# Altium footprint library QFN_Sq_65P_Side_M.PcbLib: 52 footprints (part 3 of 4)
Each footprint in its own frame and in the unit in brackets; x right, y up, seen from the top. Pads: shape width x height; smd on the part's side, far side on the other; paste and mask are expansions set on the pad; w line width, h text height; cw(c..) or ccw(c..) is an arc to the next point about the centre after c.
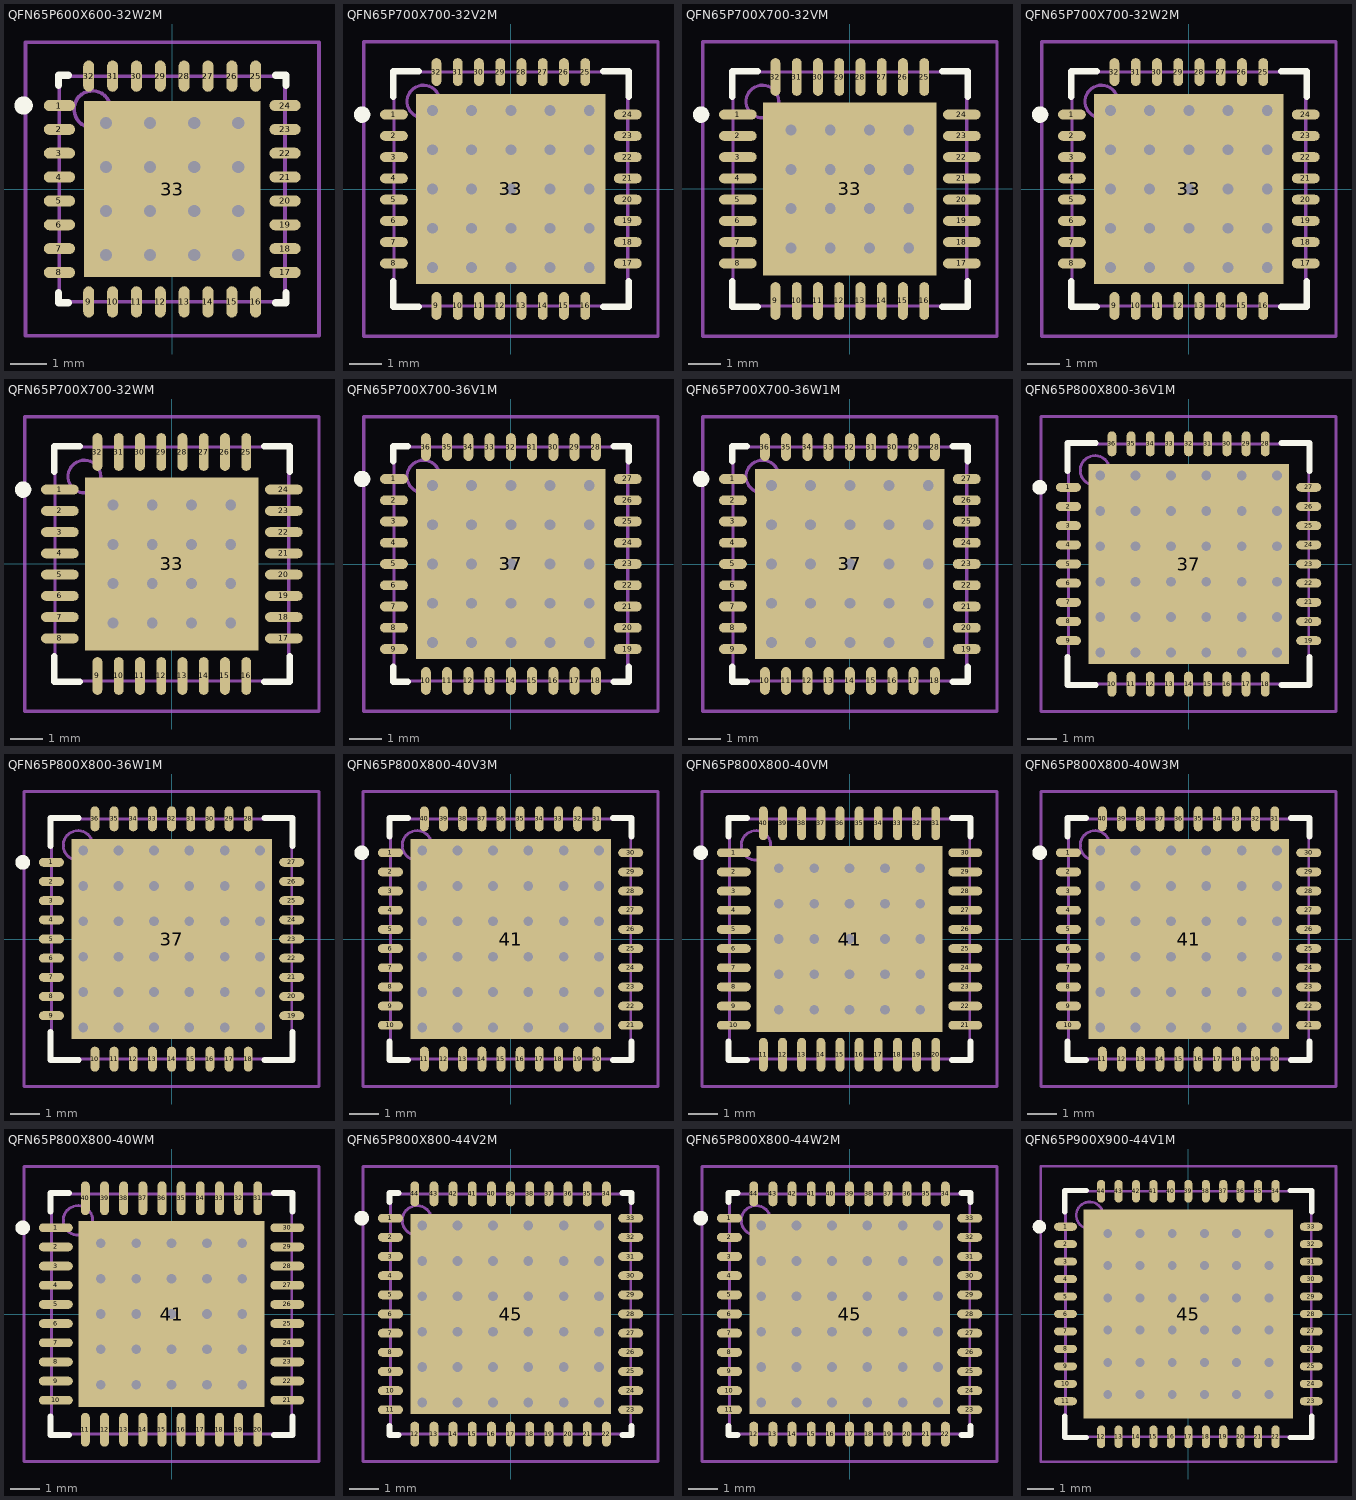
[diagram p2: the footprints below, top view; thin cyan lines are the x and y axes]

## QFN65P600X600-32W2M [mm] "QFN, 32-Leads, Body 6x6 mm, Pitch 0.65mm, IPC Low Density"
height 0.8
pads (33):
  oval 0.85x0.3 smd: 1(-3.075,2.275) 2(-3.075,1.625) 3(-3.075,0.975) 4(-3.075,0.325) 5(-3.075,-0.325) 6(-3.075,-0.975) 7(-3.075,-1.625) 8(-3.075,-2.275) 17(3.075,-2.275) 18(3.075,-1.625) 19(3.075,-0.975) 20(3.075,-0.325) 21(3.075,0.325) 22(3.075,0.975) 23(3.075,1.625) 24(3.075,2.275)
  oval 0.3x0.85 smd: 9(-2.275,-3.075) 10(-1.625,-3.075) 11(-0.975,-3.075) 12(-0.325,-3.075) 13(0.325,-3.075) 14(0.975,-3.075) 15(1.625,-3.075) 16(2.275,-3.075) 25(2.275,3.075) 26(1.625,3.075) 27(0.975,3.075) 28(0.325,3.075) 29(-0.325,3.075) 30(-0.975,3.075) 31(-1.625,3.075) 32(-2.275,3.075)
  rect 4.8x4.8 smd: 33(0,0)
via 1.8,-1.8 diameter 0.66 hole 0.33
via 0.6,-1.8 diameter 0.66 hole 0.33
via -0.6,-1.8 diameter 0.66 hole 0.33
via -1.8,-1.8 diameter 0.66 hole 0.33
via 1.8,-0.6 diameter 0.66 hole 0.33
via 0.6,-0.6 diameter 0.66 hole 0.33
via -0.6,-0.6 diameter 0.66 hole 0.33
via -1.8,-0.6 diameter 0.66 hole 0.33
via 1.8,0.6 diameter 0.66 hole 0.33
via 0.6,0.6 diameter 0.66 hole 0.33
via -0.6,0.6 diameter 0.66 hole 0.33
via -1.8,0.6 diameter 0.66 hole 0.33
via 1.8,1.8 diameter 0.66 hole 0.33
via 0.6,1.8 diameter 0.66 hole 0.33
via -0.6,1.8 diameter 0.66 hole 0.33
via -1.8,1.8 diameter 0.66 hole 0.33
Top Overlay:
  circle w0.25: c-4.05,2.275 r0.125
  lines w0.2: -3.1,-2.825 -3.1,-3.1 -2.825,-3.1 ; -3.1,2.825 -3.1,3.1 -2.825,3.1 ; 2.825,-3.1 3.1,-3.1 3.1,-2.825 ; 2.825,3.1 3.1,3.1 3.1,2.825
Mechanical 13:
  circle w0.1: c-2.175,2.175 r0.5
  lines w0.1: -3.075,-3.075 3.075,-3.075 3.075,3.075 -3.075,3.075 -3.075,-3.075
Mechanical 15:
  lines w0.1: -0.5,0 0.5,0 ; 0,-0.5 0,0.5 ; -4,-4 4,-4 4,4 -4,4 -4,-4
3D body: height 0.8, standoff 0, extent -3.075,-3.075 3.075,3.075

## QFN65P700X700-32V2M [mm] "QFN, 32-Leads, Body 7x7 mm, Pitch 0.65mm, IPC Low Density"
height 1
pads (33):
  oval 0.85x0.3 smd: 1(-3.575,2.275) 2(-3.575,1.625) 3(-3.575,0.975) 4(-3.575,0.325) 5(-3.575,-0.325) 6(-3.575,-0.975) 7(-3.575,-1.625) 8(-3.575,-2.275) 17(3.575,-2.275) 18(3.575,-1.625) 19(3.575,-0.975) 20(3.575,-0.325) 21(3.575,0.325) 22(3.575,0.975) 23(3.575,1.625) 24(3.575,2.275)
  oval 0.3x0.85 smd: 9(-2.275,-3.575) 10(-1.625,-3.575) 11(-0.975,-3.575) 12(-0.325,-3.575) 13(0.325,-3.575) 14(0.975,-3.575) 15(1.625,-3.575) 16(2.275,-3.575) 25(2.275,3.575) 26(1.625,3.575) 27(0.975,3.575) 28(0.325,3.575) 29(-0.325,3.575) 30(-0.975,3.575) 31(-1.625,3.575) 32(-2.275,3.575)
  rect 5.8x5.8 smd: 33(0,0)
via 2.4,-2.4 diameter 0.66 hole 0.33
via 1.2,-2.4 diameter 0.66 hole 0.33
via 0,-2.4 diameter 0.66 hole 0.33
via -1.2,-2.4 diameter 0.66 hole 0.33
via -2.4,-2.4 diameter 0.66 hole 0.33
via 2.4,-1.2 diameter 0.66 hole 0.33
via 1.2,-1.2 diameter 0.66 hole 0.33
via 0,-1.2 diameter 0.66 hole 0.33
via -1.2,-1.2 diameter 0.66 hole 0.33
via -2.4,-1.2 diameter 0.66 hole 0.33
via 2.4,0 diameter 0.66 hole 0.33
via 1.2,0 diameter 0.66 hole 0.33
via 0,0 diameter 0.66 hole 0.33
via -1.2,0 diameter 0.66 hole 0.33
via -2.4,0 diameter 0.66 hole 0.33
via 2.4,1.2 diameter 0.66 hole 0.33
via 1.2,1.2 diameter 0.66 hole 0.33
via 0,1.2 diameter 0.66 hole 0.33
via -1.2,1.2 diameter 0.66 hole 0.33
via -2.4,1.2 diameter 0.66 hole 0.33
via 2.4,2.4 diameter 0.66 hole 0.33
via 1.2,2.4 diameter 0.66 hole 0.33
via 0,2.4 diameter 0.66 hole 0.33
via -1.2,2.4 diameter 0.66 hole 0.33
via -2.4,2.4 diameter 0.66 hole 0.33
Top Overlay:
  circle w0.25: c-4.55,2.275 r0.125
  lines w0.2: -3.6,-2.825 -3.6,-3.6 -2.825,-3.6 ; -3.6,2.825 -3.6,3.6 -2.825,3.6 ; 2.825,-3.6 3.6,-3.6 3.6,-2.825 ; 2.825,3.6 3.6,3.6 3.6,2.825
Mechanical 13:
  circle w0.1: c-2.675,2.675 r0.5
  lines w0.1: -3.575,-3.575 3.575,-3.575 3.575,3.575 -3.575,3.575 -3.575,-3.575
Mechanical 15:
  lines w0.1: -0.5,0 0.5,0 ; 0,-0.5 0,0.5 ; -4.5,-4.5 4.5,-4.5 4.5,4.5 -4.5,4.5 -4.5,-4.5
3D body: height 1, standoff 0, extent -3.575,-3.575 3.575,3.575

## QFN65P700X700-32VM [mm] "QFN, 32-Leads, Body 7x7 mm, Pitch 0.65mm, IPC Low Density"
height 1
pads (33):
  oval 1.15x0.3 smd: 1(-3.425,2.275) 2(-3.425,1.625) 3(-3.425,0.975) 4(-3.425,0.325) 5(-3.425,-0.325) 6(-3.425,-0.975) 7(-3.425,-1.625) 8(-3.425,-2.275) 17(3.425,-2.275) 18(3.425,-1.625) 19(3.425,-0.975) 20(3.425,-0.325) 21(3.425,0.325) 22(3.425,0.975) 23(3.425,1.625) 24(3.425,2.275)
  oval 0.3x1.15 smd: 9(-2.275,-3.425) 10(-1.625,-3.425) 11(-0.975,-3.425) 12(-0.325,-3.425) 13(0.325,-3.425) 14(0.975,-3.425) 15(1.625,-3.425) 16(2.275,-3.425) 25(2.275,3.425) 26(1.625,3.425) 27(0.975,3.425) 28(0.325,3.425) 29(-0.325,3.425) 30(-0.975,3.425) 31(-1.625,3.425) 32(-2.275,3.425)
  rect 5.3x5.3 smd: 33(0,0)
via 1.8,-1.8 diameter 0.66 hole 0.33
via 0.6,-1.8 diameter 0.66 hole 0.33
via -0.6,-1.8 diameter 0.66 hole 0.33
via -1.8,-1.8 diameter 0.66 hole 0.33
via 1.8,-0.6 diameter 0.66 hole 0.33
via 0.6,-0.6 diameter 0.66 hole 0.33
via -0.6,-0.6 diameter 0.66 hole 0.33
via -1.8,-0.6 diameter 0.66 hole 0.33
via 1.8,0.6 diameter 0.66 hole 0.33
via 0.6,0.6 diameter 0.66 hole 0.33
via -0.6,0.6 diameter 0.66 hole 0.33
via -1.8,0.6 diameter 0.66 hole 0.33
via 1.8,1.8 diameter 0.66 hole 0.33
via 0.6,1.8 diameter 0.66 hole 0.33
via -0.6,1.8 diameter 0.66 hole 0.33
via -1.8,1.8 diameter 0.66 hole 0.33
Top Overlay:
  circle w0.25: c-4.55,2.275 r0.125
  lines w0.2: -3.6,-2.825 -3.6,-3.6 -2.825,-3.6 ; -3.6,2.825 -3.6,3.6 -2.825,3.6 ; 2.825,-3.6 3.6,-3.6 3.6,-2.825 ; 2.825,3.6 3.6,3.6 3.6,2.825
Mechanical 13:
  circle w0.1: c-2.675,2.675 r0.5
  lines w0.1: -3.575,-3.575 3.575,-3.575 3.575,3.575 -3.575,3.575 -3.575,-3.575
Mechanical 15:
  lines w0.1: -0.5,0 0.5,0 ; 0,-0.5 0,0.5 ; -4.5,-4.5 4.5,-4.5 4.5,4.5 -4.5,4.5 -4.5,-4.5
3D body: height 1, standoff 0, extent -3.575,-3.575 3.575,3.575

## QFN65P700X700-32W2M [mm] "QFN, 32-Leads, Body 7x7 mm, Pitch 0.65mm, IPC Low Density"
height 0.8
pads (33):
  oval 0.85x0.3 smd: 1(-3.575,2.275) 2(-3.575,1.625) 3(-3.575,0.975) 4(-3.575,0.325) 5(-3.575,-0.325) 6(-3.575,-0.975) 7(-3.575,-1.625) 8(-3.575,-2.275) 17(3.575,-2.275) 18(3.575,-1.625) 19(3.575,-0.975) 20(3.575,-0.325) 21(3.575,0.325) 22(3.575,0.975) 23(3.575,1.625) 24(3.575,2.275)
  oval 0.3x0.85 smd: 9(-2.275,-3.575) 10(-1.625,-3.575) 11(-0.975,-3.575) 12(-0.325,-3.575) 13(0.325,-3.575) 14(0.975,-3.575) 15(1.625,-3.575) 16(2.275,-3.575) 25(2.275,3.575) 26(1.625,3.575) 27(0.975,3.575) 28(0.325,3.575) 29(-0.325,3.575) 30(-0.975,3.575) 31(-1.625,3.575) 32(-2.275,3.575)
  rect 5.8x5.8 smd: 33(0,0)
via 2.4,-2.4 diameter 0.66 hole 0.33
via 1.2,-2.4 diameter 0.66 hole 0.33
via 0,-2.4 diameter 0.66 hole 0.33
via -1.2,-2.4 diameter 0.66 hole 0.33
via -2.4,-2.4 diameter 0.66 hole 0.33
via 2.4,-1.2 diameter 0.66 hole 0.33
via 1.2,-1.2 diameter 0.66 hole 0.33
via 0,-1.2 diameter 0.66 hole 0.33
via -1.2,-1.2 diameter 0.66 hole 0.33
via -2.4,-1.2 diameter 0.66 hole 0.33
via 2.4,0 diameter 0.66 hole 0.33
via 1.2,0 diameter 0.66 hole 0.33
via 0,0 diameter 0.66 hole 0.33
via -1.2,0 diameter 0.66 hole 0.33
via -2.4,0 diameter 0.66 hole 0.33
via 2.4,1.2 diameter 0.66 hole 0.33
via 1.2,1.2 diameter 0.66 hole 0.33
via 0,1.2 diameter 0.66 hole 0.33
via -1.2,1.2 diameter 0.66 hole 0.33
via -2.4,1.2 diameter 0.66 hole 0.33
via 2.4,2.4 diameter 0.66 hole 0.33
via 1.2,2.4 diameter 0.66 hole 0.33
via 0,2.4 diameter 0.66 hole 0.33
via -1.2,2.4 diameter 0.66 hole 0.33
via -2.4,2.4 diameter 0.66 hole 0.33
Top Overlay:
  circle w0.25: c-4.55,2.275 r0.125
  lines w0.2: -3.6,-2.825 -3.6,-3.6 -2.825,-3.6 ; -3.6,2.825 -3.6,3.6 -2.825,3.6 ; 2.825,-3.6 3.6,-3.6 3.6,-2.825 ; 2.825,3.6 3.6,3.6 3.6,2.825
Mechanical 13:
  circle w0.1: c-2.675,2.675 r0.5
  lines w0.1: -3.575,-3.575 3.575,-3.575 3.575,3.575 -3.575,3.575 -3.575,-3.575
Mechanical 15:
  lines w0.1: -0.5,0 0.5,0 ; 0,-0.5 0,0.5 ; -4.5,-4.5 4.5,-4.5 4.5,4.5 -4.5,4.5 -4.5,-4.5
3D body: height 0.8, standoff 0, extent -3.575,-3.575 3.575,3.575

## QFN65P700X700-32WM [mm] "QFN, 32-Leads, Body 7x7 mm, Pitch 0.65mm, IPC Low Density"
height 0.8
pads (33):
  oval 1.15x0.3 smd: 1(-3.425,2.275) 2(-3.425,1.625) 3(-3.425,0.975) 4(-3.425,0.325) 5(-3.425,-0.325) 6(-3.425,-0.975) 7(-3.425,-1.625) 8(-3.425,-2.275) 17(3.425,-2.275) 18(3.425,-1.625) 19(3.425,-0.975) 20(3.425,-0.325) 21(3.425,0.325) 22(3.425,0.975) 23(3.425,1.625) 24(3.425,2.275)
  oval 0.3x1.15 smd: 9(-2.275,-3.425) 10(-1.625,-3.425) 11(-0.975,-3.425) 12(-0.325,-3.425) 13(0.325,-3.425) 14(0.975,-3.425) 15(1.625,-3.425) 16(2.275,-3.425) 25(2.275,3.425) 26(1.625,3.425) 27(0.975,3.425) 28(0.325,3.425) 29(-0.325,3.425) 30(-0.975,3.425) 31(-1.625,3.425) 32(-2.275,3.425)
  rect 5.3x5.3 smd: 33(0,0)
via 1.8,-1.8 diameter 0.66 hole 0.33
via 0.6,-1.8 diameter 0.66 hole 0.33
via -0.6,-1.8 diameter 0.66 hole 0.33
via -1.8,-1.8 diameter 0.66 hole 0.33
via 1.8,-0.6 diameter 0.66 hole 0.33
via 0.6,-0.6 diameter 0.66 hole 0.33
via -0.6,-0.6 diameter 0.66 hole 0.33
via -1.8,-0.6 diameter 0.66 hole 0.33
via 1.8,0.6 diameter 0.66 hole 0.33
via 0.6,0.6 diameter 0.66 hole 0.33
via -0.6,0.6 diameter 0.66 hole 0.33
via -1.8,0.6 diameter 0.66 hole 0.33
via 1.8,1.8 diameter 0.66 hole 0.33
via 0.6,1.8 diameter 0.66 hole 0.33
via -0.6,1.8 diameter 0.66 hole 0.33
via -1.8,1.8 diameter 0.66 hole 0.33
Top Overlay:
  circle w0.25: c-4.55,2.275 r0.125
  lines w0.2: -3.6,-2.825 -3.6,-3.6 -2.825,-3.6 ; -3.6,2.825 -3.6,3.6 -2.825,3.6 ; 2.825,-3.6 3.6,-3.6 3.6,-2.825 ; 2.825,3.6 3.6,3.6 3.6,2.825
Mechanical 13:
  circle w0.1: c-2.675,2.675 r0.5
  lines w0.1: -3.575,-3.575 3.575,-3.575 3.575,3.575 -3.575,3.575 -3.575,-3.575
Mechanical 15:
  lines w0.1: -0.5,0 0.5,0 ; 0,-0.5 0,0.5 ; -4.5,-4.5 4.5,-4.5 4.5,4.5 -4.5,4.5 -4.5,-4.5
3D body: height 0.8, standoff 0, extent -3.575,-3.575 3.575,3.575

## QFN65P700X700-36V1M [mm] "QFN, 36-Leads, Body 7x7 mm, Pitch 0.65mm, IPC Low Density"
height 1
pads (37):
  oval 0.85x0.3 smd: 1(-3.575,2.6) 2(-3.575,1.95) 3(-3.575,1.3) 4(-3.575,0.65) 5(-3.575,0) 6(-3.575,-0.65) 7(-3.575,-1.3) 8(-3.575,-1.95) 9(-3.575,-2.6) 19(3.575,-2.6) 20(3.575,-1.95) 21(3.575,-1.3) 22(3.575,-0.65) 23(3.575,0) 24(3.575,0.65) 25(3.575,1.3) 26(3.575,1.95) 27(3.575,2.6)
  oval 0.3x0.85 smd: 10(-2.6,-3.575) 11(-1.95,-3.575) 12(-1.3,-3.575) 13(-0.65,-3.575) 14(0,-3.575) 15(0.65,-3.575) 16(1.3,-3.575) 17(1.95,-3.575) 18(2.6,-3.575) 28(2.6,3.575) 29(1.95,3.575) 30(1.3,3.575) 31(0.65,3.575) 32(0,3.575) 33(-0.65,3.575) 34(-1.3,3.575) 35(-1.95,3.575) 36(-2.6,3.575)
  rect 5.8x5.8 smd: 37(0,0)
via 2.4,-2.4 diameter 0.66 hole 0.33
via 1.2,-2.4 diameter 0.66 hole 0.33
via 0,-2.4 diameter 0.66 hole 0.33
via -1.2,-2.4 diameter 0.66 hole 0.33
via -2.4,-2.4 diameter 0.66 hole 0.33
via 2.4,-1.2 diameter 0.66 hole 0.33
via 1.2,-1.2 diameter 0.66 hole 0.33
via 0,-1.2 diameter 0.66 hole 0.33
via -1.2,-1.2 diameter 0.66 hole 0.33
via -2.4,-1.2 diameter 0.66 hole 0.33
via 2.4,0 diameter 0.66 hole 0.33
via 1.2,0 diameter 0.66 hole 0.33
via 0,0 diameter 0.66 hole 0.33
via -1.2,0 diameter 0.66 hole 0.33
via -2.4,0 diameter 0.66 hole 0.33
via 2.4,1.2 diameter 0.66 hole 0.33
via 1.2,1.2 diameter 0.66 hole 0.33
via 0,1.2 diameter 0.66 hole 0.33
via -1.2,1.2 diameter 0.66 hole 0.33
via -2.4,1.2 diameter 0.66 hole 0.33
via 2.4,2.4 diameter 0.66 hole 0.33
via 1.2,2.4 diameter 0.66 hole 0.33
via 0,2.4 diameter 0.66 hole 0.33
via -1.2,2.4 diameter 0.66 hole 0.33
via -2.4,2.4 diameter 0.66 hole 0.33
Top Overlay:
  circle w0.25: c-4.55,2.6 r0.125
  lines w0.2: -3.6,-3.15 -3.6,-3.6 -3.15,-3.6 ; -3.6,3.15 -3.6,3.6 -3.15,3.6 ; 3.15,-3.6 3.6,-3.6 3.6,-3.15 ; 3.15,3.6 3.6,3.6 3.6,3.15
Mechanical 13:
  circle w0.1: c-2.675,2.675 r0.5
  lines w0.1: -3.575,-3.575 3.575,-3.575 3.575,3.575 -3.575,3.575 -3.575,-3.575
Mechanical 15:
  lines w0.1: -0.5,0 0.5,0 ; 0,-0.5 0,0.5 ; -4.5,-4.5 4.5,-4.5 4.5,4.5 -4.5,4.5 -4.5,-4.5
3D body: height 1, standoff 0, extent -3.575,-3.575 3.575,3.575

## QFN65P700X700-36W1M [mm] "QFN, 36-Leads, Body 7x7 mm, Pitch 0.65mm, IPC Low Density"
height 0.8
pads (37):
  oval 0.85x0.3 smd: 1(-3.575,2.6) 2(-3.575,1.95) 3(-3.575,1.3) 4(-3.575,0.65) 5(-3.575,0) 6(-3.575,-0.65) 7(-3.575,-1.3) 8(-3.575,-1.95) 9(-3.575,-2.6) 19(3.575,-2.6) 20(3.575,-1.95) 21(3.575,-1.3) 22(3.575,-0.65) 23(3.575,0) 24(3.575,0.65) 25(3.575,1.3) 26(3.575,1.95) 27(3.575,2.6)
  oval 0.3x0.85 smd: 10(-2.6,-3.575) 11(-1.95,-3.575) 12(-1.3,-3.575) 13(-0.65,-3.575) 14(0,-3.575) 15(0.65,-3.575) 16(1.3,-3.575) 17(1.95,-3.575) 18(2.6,-3.575) 28(2.6,3.575) 29(1.95,3.575) 30(1.3,3.575) 31(0.65,3.575) 32(0,3.575) 33(-0.65,3.575) 34(-1.3,3.575) 35(-1.95,3.575) 36(-2.6,3.575)
  rect 5.8x5.8 smd: 37(0,0)
via -2.4,2.4 diameter 0.66 hole 0.33
via -1.2,2.4 diameter 0.66 hole 0.33
via 0,2.4 diameter 0.66 hole 0.33
via 1.2,2.4 diameter 0.66 hole 0.33
via 2.4,2.4 diameter 0.66 hole 0.33
via -2.4,1.2 diameter 0.66 hole 0.33
via -1.2,1.2 diameter 0.66 hole 0.33
via 0,1.2 diameter 0.66 hole 0.33
via 1.2,1.2 diameter 0.66 hole 0.33
via 2.4,1.2 diameter 0.66 hole 0.33
via -2.4,0 diameter 0.66 hole 0.33
via -1.2,0 diameter 0.66 hole 0.33
via 0,0 diameter 0.66 hole 0.33
via 1.2,0 diameter 0.66 hole 0.33
via 2.4,0 diameter 0.66 hole 0.33
via -2.4,-1.2 diameter 0.66 hole 0.33
via -1.2,-1.2 diameter 0.66 hole 0.33
via 0,-1.2 diameter 0.66 hole 0.33
via 1.2,-1.2 diameter 0.66 hole 0.33
via 2.4,-1.2 diameter 0.66 hole 0.33
via -2.4,-2.4 diameter 0.66 hole 0.33
via -1.2,-2.4 diameter 0.66 hole 0.33
via 0,-2.4 diameter 0.66 hole 0.33
via 1.2,-2.4 diameter 0.66 hole 0.33
via 2.4,-2.4 diameter 0.66 hole 0.33
Top Overlay:
  circle w0.25: c-4.55,2.6 r0.125
  lines w0.2: -3.6,-3.15 -3.6,-3.6 -3.15,-3.6 ; -3.6,3.15 -3.6,3.6 -3.15,3.6 ; 3.15,-3.6 3.6,-3.6 3.6,-3.15 ; 3.15,3.6 3.6,3.6 3.6,3.15
Mechanical 13:
  circle w0.1: c-2.675,2.675 r0.5
  lines w0.1: -3.575,-3.575 -3.575,3.575 3.575,3.575 3.575,-3.575 -3.575,-3.575
Mechanical 15:
  lines w0.1: -0.5,0 0.5,0 ; 0,-0.5 0,0.5 ; -4.5,-4.5 -4.5,4.5 4.5,4.5 4.5,-4.5 -4.5,-4.5
3D body: height 0.8, standoff 0, extent -3.575,-3.575 3.575,3.575

## QFN65P800X800-36V1M [mm] "QFN, 36-Leads, Body 8x8 mm, Pitch 0.65mm, IPC Low Density"
height 1
pads (37):
  oval 0.85x0.3 smd: 1(-4.075,2.6) 2(-4.075,1.95) 3(-4.075,1.3) 4(-4.075,0.65) 5(-4.075,0) 6(-4.075,-0.65) 7(-4.075,-1.3) 8(-4.075,-1.95) 9(-4.075,-2.6) 19(4.075,-2.6) 20(4.075,-1.95) 21(4.075,-1.3) 22(4.075,-0.65) 23(4.075,0) 24(4.075,0.65) 25(4.075,1.3) 26(4.075,1.95) 27(4.075,2.6)
  oval 0.3x0.85 smd: 10(-2.6,-4.075) 11(-1.95,-4.075) 12(-1.3,-4.075) 13(-0.65,-4.075) 14(0,-4.075) 15(0.65,-4.075) 16(1.3,-4.075) 17(1.95,-4.075) 18(2.6,-4.075) 28(2.6,4.075) 29(1.95,4.075) 30(1.3,4.075) 31(0.65,4.075) 32(0,4.075) 33(-0.65,4.075) 34(-1.3,4.075) 35(-1.95,4.075) 36(-2.6,4.075)
  rect 6.8x6.8 smd: 37(0,0)
via 3,-3 diameter 0.66 hole 0.33
via 1.8,-3 diameter 0.66 hole 0.33
via 0.6,-3 diameter 0.66 hole 0.33
via -0.6,-3 diameter 0.66 hole 0.33
via -1.8,-3 diameter 0.66 hole 0.33
via -3,-3 diameter 0.66 hole 0.33
via 3,-1.8 diameter 0.66 hole 0.33
via 1.8,-1.8 diameter 0.66 hole 0.33
via 0.6,-1.8 diameter 0.66 hole 0.33
via -0.6,-1.8 diameter 0.66 hole 0.33
via -1.8,-1.8 diameter 0.66 hole 0.33
via -3,-1.8 diameter 0.66 hole 0.33
via 3,-0.6 diameter 0.66 hole 0.33
via 1.8,-0.6 diameter 0.66 hole 0.33
via 0.6,-0.6 diameter 0.66 hole 0.33
via -0.6,-0.6 diameter 0.66 hole 0.33
via -1.8,-0.6 diameter 0.66 hole 0.33
via -3,-0.6 diameter 0.66 hole 0.33
via 3,0.6 diameter 0.66 hole 0.33
via 1.8,0.6 diameter 0.66 hole 0.33
via 0.6,0.6 diameter 0.66 hole 0.33
via -0.6,0.6 diameter 0.66 hole 0.33
via -1.8,0.6 diameter 0.66 hole 0.33
via -3,0.6 diameter 0.66 hole 0.33
via 3,1.8 diameter 0.66 hole 0.33
via 1.8,1.8 diameter 0.66 hole 0.33
via 0.6,1.8 diameter 0.66 hole 0.33
via -0.6,1.8 diameter 0.66 hole 0.33
via -1.8,1.8 diameter 0.66 hole 0.33
via -3,1.8 diameter 0.66 hole 0.33
via 3,3 diameter 0.66 hole 0.33
via 1.8,3 diameter 0.66 hole 0.33
via 0.6,3 diameter 0.66 hole 0.33
via -0.6,3 diameter 0.66 hole 0.33
via -1.8,3 diameter 0.66 hole 0.33
via -3,3 diameter 0.66 hole 0.33
Top Overlay:
  circle w0.25: c-5.05,2.6 r0.125
  lines w0.2: -4.1,-3.15 -4.1,-4.1 -3.15,-4.1 ; -4.1,3.15 -4.1,4.1 -3.15,4.1 ; 3.15,-4.1 4.1,-4.1 4.1,-3.15 ; 3.15,4.1 4.1,4.1 4.1,3.15
Mechanical 13:
  circle w0.1: c-3.175,3.175 r0.5
  lines w0.1: -4.075,-4.075 4.075,-4.075 4.075,4.075 -4.075,4.075 -4.075,-4.075
Mechanical 15:
  lines w0.1: -0.5,0 0.5,0 ; 0,-0.5 0,0.5 ; -5,-5 5,-5 5,5 -5,5 -5,-5
3D body: height 1, standoff 0, extent -4.075,-4.075 4.075,4.075

## QFN65P800X800-36W1M [mm] "QFN, 36-Leads, Body 8x8 mm, Pitch 0.65mm, IPC Low Density"
height 0.8
pads (37):
  oval 0.85x0.3 smd: 1(-4.075,2.6) 2(-4.075,1.95) 3(-4.075,1.3) 4(-4.075,0.65) 5(-4.075,0) 6(-4.075,-0.65) 7(-4.075,-1.3) 8(-4.075,-1.95) 9(-4.075,-2.6) 19(4.075,-2.6) 20(4.075,-1.95) 21(4.075,-1.3) 22(4.075,-0.65) 23(4.075,0) 24(4.075,0.65) 25(4.075,1.3) 26(4.075,1.95) 27(4.075,2.6)
  oval 0.3x0.85 smd: 10(-2.6,-4.075) 11(-1.95,-4.075) 12(-1.3,-4.075) 13(-0.65,-4.075) 14(0,-4.075) 15(0.65,-4.075) 16(1.3,-4.075) 17(1.95,-4.075) 18(2.6,-4.075) 28(2.6,4.075) 29(1.95,4.075) 30(1.3,4.075) 31(0.65,4.075) 32(0,4.075) 33(-0.65,4.075) 34(-1.3,4.075) 35(-1.95,4.075) 36(-2.6,4.075)
  rect 6.8x6.8 smd: 37(0,0)
via 3,-3 diameter 0.66 hole 0.33
via 1.8,-3 diameter 0.66 hole 0.33
via 0.6,-3 diameter 0.66 hole 0.33
via -0.6,-3 diameter 0.66 hole 0.33
via -1.8,-3 diameter 0.66 hole 0.33
via -3,-3 diameter 0.66 hole 0.33
via 3,-1.8 diameter 0.66 hole 0.33
via 1.8,-1.8 diameter 0.66 hole 0.33
via 0.6,-1.8 diameter 0.66 hole 0.33
via -0.6,-1.8 diameter 0.66 hole 0.33
via -1.8,-1.8 diameter 0.66 hole 0.33
via -3,-1.8 diameter 0.66 hole 0.33
via 3,-0.6 diameter 0.66 hole 0.33
via 1.8,-0.6 diameter 0.66 hole 0.33
via 0.6,-0.6 diameter 0.66 hole 0.33
via -0.6,-0.6 diameter 0.66 hole 0.33
via -1.8,-0.6 diameter 0.66 hole 0.33
via -3,-0.6 diameter 0.66 hole 0.33
via 3,0.6 diameter 0.66 hole 0.33
via 1.8,0.6 diameter 0.66 hole 0.33
via 0.6,0.6 diameter 0.66 hole 0.33
via -0.6,0.6 diameter 0.66 hole 0.33
via -1.8,0.6 diameter 0.66 hole 0.33
via -3,0.6 diameter 0.66 hole 0.33
via 3,1.8 diameter 0.66 hole 0.33
via 1.8,1.8 diameter 0.66 hole 0.33
via 0.6,1.8 diameter 0.66 hole 0.33
via -0.6,1.8 diameter 0.66 hole 0.33
via -1.8,1.8 diameter 0.66 hole 0.33
via -3,1.8 diameter 0.66 hole 0.33
via 3,3 diameter 0.66 hole 0.33
via 1.8,3 diameter 0.66 hole 0.33
via 0.6,3 diameter 0.66 hole 0.33
via -0.6,3 diameter 0.66 hole 0.33
via -1.8,3 diameter 0.66 hole 0.33
via -3,3 diameter 0.66 hole 0.33
Top Overlay:
  circle w0.25: c-5.05,2.6 r0.125
  lines w0.2: -4.1,-3.15 -4.1,-4.1 -3.15,-4.1 ; -4.1,3.15 -4.1,4.1 -3.15,4.1 ; 3.15,-4.1 4.1,-4.1 4.1,-3.15 ; 3.15,4.1 4.1,4.1 4.1,3.15
Mechanical 13:
  circle w0.1: c-3.175,3.175 r0.5
  lines w0.1: -4.075,-4.075 4.075,-4.075 4.075,4.075 -4.075,4.075 -4.075,-4.075
Mechanical 15:
  lines w0.1: -0.5,0 0.5,0 ; 0,-0.5 0,0.5 ; -5,-5 5,-5 5,5 -5,5 -5,-5
3D body: height 0.8, standoff 0, extent -4.075,-4.075 4.075,4.075

## QFN65P800X800-40V3M [mm] "QFN, 40-Leads, Body 8x8 mm, Pitch 0.65mm, IPC Low Density"
height 1
pads (41):
  oval 0.85x0.3 smd: 1(-4.075,2.925) 2(-4.075,2.275) 3(-4.075,1.625) 4(-4.075,0.975) 5(-4.075,0.325) 6(-4.075,-0.325) 7(-4.075,-0.975) 8(-4.075,-1.625) 9(-4.075,-2.275) 10(-4.075,-2.925) 21(4.075,-2.925) 22(4.075,-2.275) 23(4.075,-1.625) 24(4.075,-0.975) 25(4.075,-0.325) 26(4.075,0.325) 27(4.075,0.975) 28(4.075,1.625) 29(4.075,2.275) 30(4.075,2.925)
  oval 0.3x0.85 smd: 11(-2.925,-4.075) 12(-2.275,-4.075) 13(-1.625,-4.075) 14(-0.975,-4.075) 15(-0.325,-4.075) 16(0.325,-4.075) 17(0.975,-4.075) 18(1.625,-4.075) 19(2.275,-4.075) 20(2.925,-4.075) 31(2.925,4.075) 32(2.275,4.075) 33(1.625,4.075) 34(0.975,4.075) 35(0.325,4.075) 36(-0.325,4.075) 37(-0.975,4.075) 38(-1.625,4.075) 39(-2.275,4.075) 40(-2.925,4.075)
  rect 6.8x6.8 smd: 41(0,0)
via 3,-3 diameter 0.66 hole 0.33
via 1.8,-3 diameter 0.66 hole 0.33
via 0.6,-3 diameter 0.66 hole 0.33
via -0.6,-3 diameter 0.66 hole 0.33
via -1.8,-3 diameter 0.66 hole 0.33
via -3,-3 diameter 0.66 hole 0.33
via 3,-1.8 diameter 0.66 hole 0.33
via 1.8,-1.8 diameter 0.66 hole 0.33
via 0.6,-1.8 diameter 0.66 hole 0.33
via -0.6,-1.8 diameter 0.66 hole 0.33
via -1.8,-1.8 diameter 0.66 hole 0.33
via -3,-1.8 diameter 0.66 hole 0.33
via 3,-0.6 diameter 0.66 hole 0.33
via 1.8,-0.6 diameter 0.66 hole 0.33
via 0.6,-0.6 diameter 0.66 hole 0.33
via -0.6,-0.6 diameter 0.66 hole 0.33
via -1.8,-0.6 diameter 0.66 hole 0.33
via -3,-0.6 diameter 0.66 hole 0.33
via 3,0.6 diameter 0.66 hole 0.33
via 1.8,0.6 diameter 0.66 hole 0.33
via 0.6,0.6 diameter 0.66 hole 0.33
via -0.6,0.6 diameter 0.66 hole 0.33
via -1.8,0.6 diameter 0.66 hole 0.33
via -3,0.6 diameter 0.66 hole 0.33
via 3,1.8 diameter 0.66 hole 0.33
via 1.8,1.8 diameter 0.66 hole 0.33
via 0.6,1.8 diameter 0.66 hole 0.33
via -0.6,1.8 diameter 0.66 hole 0.33
via -1.8,1.8 diameter 0.66 hole 0.33
via -3,1.8 diameter 0.66 hole 0.33
via 3,3 diameter 0.66 hole 0.33
via 1.8,3 diameter 0.66 hole 0.33
via 0.6,3 diameter 0.66 hole 0.33
via -0.6,3 diameter 0.66 hole 0.33
via -1.8,3 diameter 0.66 hole 0.33
via -3,3 diameter 0.66 hole 0.33
Top Overlay:
  circle w0.25: c-5.05,2.925 r0.125
  lines w0.2: -4.1,-3.475 -4.1,-4.1 -3.475,-4.1 ; -4.1,3.475 -4.1,4.1 -3.475,4.1 ; 3.475,-4.1 4.1,-4.1 4.1,-3.475 ; 3.475,4.1 4.1,4.1 4.1,3.475
Mechanical 13:
  circle w0.1: c-3.175,3.175 r0.5
  lines w0.1: -4.075,-4.075 4.075,-4.075 4.075,4.075 -4.075,4.075 -4.075,-4.075
Mechanical 15:
  lines w0.1: -0.5,0 0.5,0 ; 0,-0.5 0,0.5 ; -5,-5 5,-5 5,5 -5,5 -5,-5
3D body: height 1, standoff 0, extent -4.075,-4.075 4.075,4.075

## QFN65P800X800-40VM [mm] "QFN, 40-Leads, Body 8x8 mm, Pitch 0.65mm, IPC Low Density"
height 1
pads (41):
  oval 1.15x0.3 smd: 1(-3.925,2.925) 2(-3.925,2.275) 3(-3.925,1.625) 4(-3.925,0.975) 5(-3.925,0.325) 6(-3.925,-0.325) 7(-3.925,-0.975) 8(-3.925,-1.625) 9(-3.925,-2.275) 10(-3.925,-2.925) 21(3.925,-2.925) 22(3.925,-2.275) 23(3.925,-1.625) 24(3.925,-0.975) 25(3.925,-0.325) 26(3.925,0.325) 27(3.925,0.975) 28(3.925,1.625) 29(3.925,2.275) 30(3.925,2.925)
  oval 0.3x1.15 smd: 11(-2.925,-3.925) 12(-2.275,-3.925) 13(-1.625,-3.925) 14(-0.975,-3.925) 15(-0.325,-3.925) 16(0.325,-3.925) 17(0.975,-3.925) 18(1.625,-3.925) 19(2.275,-3.925) 20(2.925,-3.925) 31(2.925,3.925) 32(2.275,3.925) 33(1.625,3.925) 34(0.975,3.925) 35(0.325,3.925) 36(-0.325,3.925) 37(-0.975,3.925) 38(-1.625,3.925) 39(-2.275,3.925) 40(-2.925,3.925)
  rect 6.3x6.3 smd: 41(0,0)
via 2.4,-2.4 diameter 0.66 hole 0.33
via 1.2,-2.4 diameter 0.66 hole 0.33
via 0,-2.4 diameter 0.66 hole 0.33
via -1.2,-2.4 diameter 0.66 hole 0.33
via -2.4,-2.4 diameter 0.66 hole 0.33
via 2.4,-1.2 diameter 0.66 hole 0.33
via 1.2,-1.2 diameter 0.66 hole 0.33
via 0,-1.2 diameter 0.66 hole 0.33
via -1.2,-1.2 diameter 0.66 hole 0.33
via -2.4,-1.2 diameter 0.66 hole 0.33
via 2.4,0 diameter 0.66 hole 0.33
via 1.2,0 diameter 0.66 hole 0.33
via 0,0 diameter 0.66 hole 0.33
via -1.2,0 diameter 0.66 hole 0.33
via -2.4,0 diameter 0.66 hole 0.33
via 2.4,1.2 diameter 0.66 hole 0.33
via 1.2,1.2 diameter 0.66 hole 0.33
via 0,1.2 diameter 0.66 hole 0.33
via -1.2,1.2 diameter 0.66 hole 0.33
via -2.4,1.2 diameter 0.66 hole 0.33
via 2.4,2.4 diameter 0.66 hole 0.33
via 1.2,2.4 diameter 0.66 hole 0.33
via 0,2.4 diameter 0.66 hole 0.33
via -1.2,2.4 diameter 0.66 hole 0.33
via -2.4,2.4 diameter 0.66 hole 0.33
Top Overlay:
  circle w0.25: c-5.05,2.925 r0.125
  lines w0.2: -4.1,-3.475 -4.1,-4.1 -3.475,-4.1 ; -4.1,3.475 -4.1,4.1 -3.475,4.1 ; 3.475,-4.1 4.1,-4.1 4.1,-3.475 ; 3.475,4.1 4.1,4.1 4.1,3.475
Mechanical 13:
  circle w0.1: c-3.175,3.175 r0.5
  lines w0.1: -4.075,-4.075 4.075,-4.075 4.075,4.075 -4.075,4.075 -4.075,-4.075
Mechanical 15:
  lines w0.1: -0.5,0 0.5,0 ; 0,-0.5 0,0.5 ; -5,-5 5,-5 5,5 -5,5 -5,-5
3D body: height 1, standoff 0, extent -4.075,-4.075 4.075,4.075

## QFN65P800X800-40W3M [mm] "QFN, 40-Leads, Body 8x8 mm, Pitch 0.65mm, IPC Low Density"
height 0.8
pads (41):
  oval 0.85x0.3 smd: 1(-4.075,2.925) 2(-4.075,2.275) 3(-4.075,1.625) 4(-4.075,0.975) 5(-4.075,0.325) 6(-4.075,-0.325) 7(-4.075,-0.975) 8(-4.075,-1.625) 9(-4.075,-2.275) 10(-4.075,-2.925) 21(4.075,-2.925) 22(4.075,-2.275) 23(4.075,-1.625) 24(4.075,-0.975) 25(4.075,-0.325) 26(4.075,0.325) 27(4.075,0.975) 28(4.075,1.625) 29(4.075,2.275) 30(4.075,2.925)
  oval 0.3x0.85 smd: 11(-2.925,-4.075) 12(-2.275,-4.075) 13(-1.625,-4.075) 14(-0.975,-4.075) 15(-0.325,-4.075) 16(0.325,-4.075) 17(0.975,-4.075) 18(1.625,-4.075) 19(2.275,-4.075) 20(2.925,-4.075) 31(2.925,4.075) 32(2.275,4.075) 33(1.625,4.075) 34(0.975,4.075) 35(0.325,4.075) 36(-0.325,4.075) 37(-0.975,4.075) 38(-1.625,4.075) 39(-2.275,4.075) 40(-2.925,4.075)
  rect 6.8x6.8 smd: 41(0,0)
via 3,-3 diameter 0.66 hole 0.33
via 1.8,-3 diameter 0.66 hole 0.33
via 0.6,-3 diameter 0.66 hole 0.33
via -0.6,-3 diameter 0.66 hole 0.33
via -1.8,-3 diameter 0.66 hole 0.33
via -3,-3 diameter 0.66 hole 0.33
via 3,-1.8 diameter 0.66 hole 0.33
via 1.8,-1.8 diameter 0.66 hole 0.33
via 0.6,-1.8 diameter 0.66 hole 0.33
via -0.6,-1.8 diameter 0.66 hole 0.33
via -1.8,-1.8 diameter 0.66 hole 0.33
via -3,-1.8 diameter 0.66 hole 0.33
via 3,-0.6 diameter 0.66 hole 0.33
via 1.8,-0.6 diameter 0.66 hole 0.33
via 0.6,-0.6 diameter 0.66 hole 0.33
via -0.6,-0.6 diameter 0.66 hole 0.33
via -1.8,-0.6 diameter 0.66 hole 0.33
via -3,-0.6 diameter 0.66 hole 0.33
via 3,0.6 diameter 0.66 hole 0.33
via 1.8,0.6 diameter 0.66 hole 0.33
via 0.6,0.6 diameter 0.66 hole 0.33
via -0.6,0.6 diameter 0.66 hole 0.33
via -1.8,0.6 diameter 0.66 hole 0.33
via -3,0.6 diameter 0.66 hole 0.33
via 3,1.8 diameter 0.66 hole 0.33
via 1.8,1.8 diameter 0.66 hole 0.33
via 0.6,1.8 diameter 0.66 hole 0.33
via -0.6,1.8 diameter 0.66 hole 0.33
via -1.8,1.8 diameter 0.66 hole 0.33
via -3,1.8 diameter 0.66 hole 0.33
via 3,3 diameter 0.66 hole 0.33
via 1.8,3 diameter 0.66 hole 0.33
via 0.6,3 diameter 0.66 hole 0.33
via -0.6,3 diameter 0.66 hole 0.33
via -1.8,3 diameter 0.66 hole 0.33
via -3,3 diameter 0.66 hole 0.33
Top Overlay:
  circle w0.25: c-5.05,2.925 r0.125
  lines w0.2: -4.1,-3.475 -4.1,-4.1 -3.475,-4.1 ; -4.1,3.475 -4.1,4.1 -3.475,4.1 ; 3.475,-4.1 4.1,-4.1 4.1,-3.475 ; 3.475,4.1 4.1,4.1 4.1,3.475
Mechanical 13:
  circle w0.1: c-3.175,3.175 r0.5
  lines w0.1: -4.075,-4.075 4.075,-4.075 4.075,4.075 -4.075,4.075 -4.075,-4.075
Mechanical 15:
  lines w0.1: -0.5,0 0.5,0 ; 0,-0.5 0,0.5 ; -5,-5 5,-5 5,5 -5,5 -5,-5
3D body: height 0.8, standoff 0, extent -4.075,-4.075 4.075,4.075

## QFN65P800X800-40WM [mm] "QFN, 40-Leads, Body 8x8 mm, Pitch 0.65mm, IPC Low Density"
height 0.8
pads (41):
  oval 1.15x0.3 smd: 1(-3.925,2.925) 2(-3.925,2.275) 3(-3.925,1.625) 4(-3.925,0.975) 5(-3.925,0.325) 6(-3.925,-0.325) 7(-3.925,-0.975) 8(-3.925,-1.625) 9(-3.925,-2.275) 10(-3.925,-2.925) 21(3.925,-2.925) 22(3.925,-2.275) 23(3.925,-1.625) 24(3.925,-0.975) 25(3.925,-0.325) 26(3.925,0.325) 27(3.925,0.975) 28(3.925,1.625) 29(3.925,2.275) 30(3.925,2.925)
  oval 0.3x1.15 smd: 11(-2.925,-3.925) 12(-2.275,-3.925) 13(-1.625,-3.925) 14(-0.975,-3.925) 15(-0.325,-3.925) 16(0.325,-3.925) 17(0.975,-3.925) 18(1.625,-3.925) 19(2.275,-3.925) 20(2.925,-3.925) 31(2.925,3.925) 32(2.275,3.925) 33(1.625,3.925) 34(0.975,3.925) 35(0.325,3.925) 36(-0.325,3.925) 37(-0.975,3.925) 38(-1.625,3.925) 39(-2.275,3.925) 40(-2.925,3.925)
  rect 6.3x6.3 smd: 41(0,0)
via 2.4,-2.4 diameter 0.66 hole 0.33
via 1.2,-2.4 diameter 0.66 hole 0.33
via 0,-2.4 diameter 0.66 hole 0.33
via -1.2,-2.4 diameter 0.66 hole 0.33
via -2.4,-2.4 diameter 0.66 hole 0.33
via 2.4,-1.2 diameter 0.66 hole 0.33
via 1.2,-1.2 diameter 0.66 hole 0.33
via 0,-1.2 diameter 0.66 hole 0.33
via -1.2,-1.2 diameter 0.66 hole 0.33
via -2.4,-1.2 diameter 0.66 hole 0.33
via 2.4,0 diameter 0.66 hole 0.33
via 1.2,0 diameter 0.66 hole 0.33
via 0,0 diameter 0.66 hole 0.33
via -1.2,0 diameter 0.66 hole 0.33
via -2.4,0 diameter 0.66 hole 0.33
via 2.4,1.2 diameter 0.66 hole 0.33
via 1.2,1.2 diameter 0.66 hole 0.33
via 0,1.2 diameter 0.66 hole 0.33
via -1.2,1.2 diameter 0.66 hole 0.33
via -2.4,1.2 diameter 0.66 hole 0.33
via 2.4,2.4 diameter 0.66 hole 0.33
via 1.2,2.4 diameter 0.66 hole 0.33
via 0,2.4 diameter 0.66 hole 0.33
via -1.2,2.4 diameter 0.66 hole 0.33
via -2.4,2.4 diameter 0.66 hole 0.33
Top Overlay:
  circle w0.25: c-5.05,2.925 r0.125
  lines w0.2: -4.1,-3.475 -4.1,-4.1 -3.475,-4.1 ; -4.1,3.475 -4.1,4.1 -3.475,4.1 ; 3.475,-4.1 4.1,-4.1 4.1,-3.475 ; 3.475,4.1 4.1,4.1 4.1,3.475
Mechanical 13:
  circle w0.1: c-3.175,3.175 r0.5
  lines w0.1: -4.075,-4.075 4.075,-4.075 4.075,4.075 -4.075,4.075 -4.075,-4.075
Mechanical 15:
  lines w0.1: -0.5,0 0.5,0 ; 0,-0.5 0,0.5 ; -5,-5 5,-5 5,5 -5,5 -5,-5
3D body: height 0.8, standoff 0, extent -4.075,-4.075 4.075,4.075

## QFN65P800X800-44V2M [mm] "QFN, 44-Leads, Body 8x8 mm, Pitch 0.65mm, IPC Low Density"
height 1
pads (45):
  oval 0.85x0.3 smd: 1(-4.075,3.25) 2(-4.075,2.6) 3(-4.075,1.95) 4(-4.075,1.3) 5(-4.075,0.65) 6(-4.075,0) 7(-4.075,-0.65) 8(-4.075,-1.3) 9(-4.075,-1.95) 10(-4.075,-2.6) 11(-4.075,-3.25) 23(4.075,-3.25) 24(4.075,-2.6) 25(4.075,-1.95) 26(4.075,-1.3) 27(4.075,-0.65) 28(4.075,0) 29(4.075,0.65) 30(4.075,1.3) 31(4.075,1.95) 32(4.075,2.6) 33(4.075,3.25)
  oval 0.3x0.85 smd: 12(-3.25,-4.075) 13(-2.6,-4.075) 14(-1.95,-4.075) 15(-1.3,-4.075) 16(-0.65,-4.075) 17(0,-4.075) 18(0.65,-4.075) 19(1.3,-4.075) 20(1.95,-4.075) 21(2.6,-4.075) 22(3.25,-4.075) 34(3.25,4.075) 35(2.6,4.075) 36(1.95,4.075) 37(1.3,4.075) 38(0.65,4.075) 39(0,4.075) 40(-0.65,4.075) 41(-1.3,4.075) 42(-1.95,4.075) 43(-2.6,4.075) 44(-3.25,4.075)
  rect 6.8x6.8 smd: 45(0,0)
via 3,-3 diameter 0.66 hole 0.33
via 1.8,-3 diameter 0.66 hole 0.33
via 0.6,-3 diameter 0.66 hole 0.33
via -0.6,-3 diameter 0.66 hole 0.33
via -1.8,-3 diameter 0.66 hole 0.33
via -3,-3 diameter 0.66 hole 0.33
via 3,-1.8 diameter 0.66 hole 0.33
via 1.8,-1.8 diameter 0.66 hole 0.33
via 0.6,-1.8 diameter 0.66 hole 0.33
via -0.6,-1.8 diameter 0.66 hole 0.33
via -1.8,-1.8 diameter 0.66 hole 0.33
via -3,-1.8 diameter 0.66 hole 0.33
via 3,-0.6 diameter 0.66 hole 0.33
via 1.8,-0.6 diameter 0.66 hole 0.33
via 0.6,-0.6 diameter 0.66 hole 0.33
via -0.6,-0.6 diameter 0.66 hole 0.33
via -1.8,-0.6 diameter 0.66 hole 0.33
via -3,-0.6 diameter 0.66 hole 0.33
via 3,0.6 diameter 0.66 hole 0.33
via 1.8,0.6 diameter 0.66 hole 0.33
via 0.6,0.6 diameter 0.66 hole 0.33
via -0.6,0.6 diameter 0.66 hole 0.33
via -1.8,0.6 diameter 0.66 hole 0.33
via -3,0.6 diameter 0.66 hole 0.33
via 3,1.8 diameter 0.66 hole 0.33
via 1.8,1.8 diameter 0.66 hole 0.33
via 0.6,1.8 diameter 0.66 hole 0.33
via -0.6,1.8 diameter 0.66 hole 0.33
via -1.8,1.8 diameter 0.66 hole 0.33
via -3,1.8 diameter 0.66 hole 0.33
via 3,3 diameter 0.66 hole 0.33
via 1.8,3 diameter 0.66 hole 0.33
via 0.6,3 diameter 0.66 hole 0.33
via -0.6,3 diameter 0.66 hole 0.33
via -1.8,3 diameter 0.66 hole 0.33
via -3,3 diameter 0.66 hole 0.33
Top Overlay:
  circle w0.25: c-5.05,3.25 r0.125
  lines w0.2: -4.1,-3.8 -4.1,-4.1 -3.8,-4.1 ; -4.1,3.8 -4.1,4.1 -3.8,4.1 ; 3.8,-4.1 4.1,-4.1 4.1,-3.8 ; 3.8,4.1 4.1,4.1 4.1,3.8
Mechanical 13:
  circle w0.1: c-3.175,3.175 r0.5
  lines w0.1: -4.075,-4.075 4.075,-4.075 4.075,4.075 -4.075,4.075 -4.075,-4.075
Mechanical 15:
  lines w0.1: -0.5,0 0.5,0 ; 0,-0.5 0,0.5 ; -5,-5 5,-5 5,5 -5,5 -5,-5
3D body: height 1, standoff 0, extent -4.075,-4.075 4.075,4.075

## QFN65P800X800-44W2M [mm] "QFN, 44-Leads, Body 8x8 mm, Pitch 0.65mm, IPC Low Density"
height 0.8
pads (45):
  oval 0.85x0.3 smd: 1(-4.075,3.25) 2(-4.075,2.6) 3(-4.075,1.95) 4(-4.075,1.3) 5(-4.075,0.65) 6(-4.075,0) 7(-4.075,-0.65) 8(-4.075,-1.3) 9(-4.075,-1.95) 10(-4.075,-2.6) 11(-4.075,-3.25) 23(4.075,-3.25) 24(4.075,-2.6) 25(4.075,-1.95) 26(4.075,-1.3) 27(4.075,-0.65) 28(4.075,0) 29(4.075,0.65) 30(4.075,1.3) 31(4.075,1.95) 32(4.075,2.6) 33(4.075,3.25)
  oval 0.3x0.85 smd: 12(-3.25,-4.075) 13(-2.6,-4.075) 14(-1.95,-4.075) 15(-1.3,-4.075) 16(-0.65,-4.075) 17(0,-4.075) 18(0.65,-4.075) 19(1.3,-4.075) 20(1.95,-4.075) 21(2.6,-4.075) 22(3.25,-4.075) 34(3.25,4.075) 35(2.6,4.075) 36(1.95,4.075) 37(1.3,4.075) 38(0.65,4.075) 39(0,4.075) 40(-0.65,4.075) 41(-1.3,4.075) 42(-1.95,4.075) 43(-2.6,4.075) 44(-3.25,4.075)
  rect 6.8x6.8 smd: 45(0,0)
via 3,-3 diameter 0.66 hole 0.33
via 1.8,-3 diameter 0.66 hole 0.33
via 0.6,-3 diameter 0.66 hole 0.33
via -0.6,-3 diameter 0.66 hole 0.33
via -1.8,-3 diameter 0.66 hole 0.33
via -3,-3 diameter 0.66 hole 0.33
via 3,-1.8 diameter 0.66 hole 0.33
via 1.8,-1.8 diameter 0.66 hole 0.33
via 0.6,-1.8 diameter 0.66 hole 0.33
via -0.6,-1.8 diameter 0.66 hole 0.33
via -1.8,-1.8 diameter 0.66 hole 0.33
via -3,-1.8 diameter 0.66 hole 0.33
via 3,-0.6 diameter 0.66 hole 0.33
via 1.8,-0.6 diameter 0.66 hole 0.33
via 0.6,-0.6 diameter 0.66 hole 0.33
via -0.6,-0.6 diameter 0.66 hole 0.33
via -1.8,-0.6 diameter 0.66 hole 0.33
via -3,-0.6 diameter 0.66 hole 0.33
via 3,0.6 diameter 0.66 hole 0.33
via 1.8,0.6 diameter 0.66 hole 0.33
via 0.6,0.6 diameter 0.66 hole 0.33
via -0.6,0.6 diameter 0.66 hole 0.33
via -1.8,0.6 diameter 0.66 hole 0.33
via -3,0.6 diameter 0.66 hole 0.33
via 3,1.8 diameter 0.66 hole 0.33
via 1.8,1.8 diameter 0.66 hole 0.33
via 0.6,1.8 diameter 0.66 hole 0.33
via -0.6,1.8 diameter 0.66 hole 0.33
via -1.8,1.8 diameter 0.66 hole 0.33
via -3,1.8 diameter 0.66 hole 0.33
via 3,3 diameter 0.66 hole 0.33
via 1.8,3 diameter 0.66 hole 0.33
via 0.6,3 diameter 0.66 hole 0.33
via -0.6,3 diameter 0.66 hole 0.33
via -1.8,3 diameter 0.66 hole 0.33
via -3,3 diameter 0.66 hole 0.33
Top Overlay:
  circle w0.25: c-5.05,3.25 r0.125
  lines w0.2: -4.1,-3.8 -4.1,-4.1 -3.8,-4.1 ; -4.1,3.8 -4.1,4.1 -3.8,4.1 ; 3.8,-4.1 4.1,-4.1 4.1,-3.8 ; 3.8,4.1 4.1,4.1 4.1,3.8
Mechanical 13:
  circle w0.1: c-3.175,3.175 r0.5
  lines w0.1: -4.075,-4.075 4.075,-4.075 4.075,4.075 -4.075,4.075 -4.075,-4.075
Mechanical 15:
  lines w0.1: -0.5,0 0.5,0 ; 0,-0.5 0,0.5 ; -5,-5 5,-5 5,5 -5,5 -5,-5
3D body: height 0.8, standoff 0, extent -4.075,-4.075 4.075,4.075

## QFN65P900X900-44V1M [mm] "QFN, 44-Leads, Body 9x9 mm, Pitch 0.65mm, IPC Low Density"
height 1
pads (45):
  oval 0.85x0.3 smd: 1(-4.575,3.25) 2(-4.575,2.6) 3(-4.575,1.95) 4(-4.575,1.3) 5(-4.575,0.65) 6(-4.575,0) 7(-4.575,-0.65) 8(-4.575,-1.3) 9(-4.575,-1.95) 10(-4.575,-2.6) 11(-4.575,-3.25) 23(4.575,-3.25) 24(4.575,-2.6) 25(4.575,-1.95) 26(4.575,-1.3) 27(4.575,-0.65) 28(4.575,0) 29(4.575,0.65) 30(4.575,1.3) 31(4.575,1.95) 32(4.575,2.6) 33(4.575,3.25)
  oval 0.3x0.85 smd: 12(-3.25,-4.575) 13(-2.6,-4.575) 14(-1.95,-4.575) 15(-1.3,-4.575) 16(-0.65,-4.575) 17(0,-4.575) 18(0.65,-4.575) 19(1.3,-4.575) 20(1.95,-4.575) 21(2.6,-4.575) 22(3.25,-4.575) 34(3.25,4.575) 35(2.6,4.575) 36(1.95,4.575) 37(1.3,4.575) 38(0.65,4.575) 39(0,4.575) 40(-0.65,4.575) 41(-1.3,4.575) 42(-1.95,4.575) 43(-2.6,4.575) 44(-3.25,4.575)
  rect 7.8x7.8 smd: 45(0,0)
via 3,-3 diameter 0.66 hole 0.33
via 1.8,-3 diameter 0.66 hole 0.33
via 0.6,-3 diameter 0.66 hole 0.33
via -0.6,-3 diameter 0.66 hole 0.33
via -1.8,-3 diameter 0.66 hole 0.33
via -3,-3 diameter 0.66 hole 0.33
via 3,-1.8 diameter 0.66 hole 0.33
via 1.8,-1.8 diameter 0.66 hole 0.33
via 0.6,-1.8 diameter 0.66 hole 0.33
via -0.6,-1.8 diameter 0.66 hole 0.33
via -1.8,-1.8 diameter 0.66 hole 0.33
via -3,-1.8 diameter 0.66 hole 0.33
via 3,-0.6 diameter 0.66 hole 0.33
via 1.8,-0.6 diameter 0.66 hole 0.33
via 0.6,-0.6 diameter 0.66 hole 0.33
via -0.6,-0.6 diameter 0.66 hole 0.33
via -1.8,-0.6 diameter 0.66 hole 0.33
via -3,-0.6 diameter 0.66 hole 0.33
via 3,0.6 diameter 0.66 hole 0.33
via 1.8,0.6 diameter 0.66 hole 0.33
via 0.6,0.6 diameter 0.66 hole 0.33
via -0.6,0.6 diameter 0.66 hole 0.33
via -1.8,0.6 diameter 0.66 hole 0.33
via -3,0.6 diameter 0.66 hole 0.33
via 3,1.8 diameter 0.66 hole 0.33
via 1.8,1.8 diameter 0.66 hole 0.33
via 0.6,1.8 diameter 0.66 hole 0.33
via -0.6,1.8 diameter 0.66 hole 0.33
via -1.8,1.8 diameter 0.66 hole 0.33
via -3,1.8 diameter 0.66 hole 0.33
via 3,3 diameter 0.66 hole 0.33
via 1.8,3 diameter 0.66 hole 0.33
via 0.6,3 diameter 0.66 hole 0.33
via -0.6,3 diameter 0.66 hole 0.33
via -1.8,3 diameter 0.66 hole 0.33
via -3,3 diameter 0.66 hole 0.33
Top Overlay:
  circle w0.25: c-5.55,3.25 r0.125
  lines w0.2: -4.6,-3.8 -4.6,-4.6 -3.8,-4.6 ; -4.6,3.8 -4.6,4.6 -3.8,4.6 ; 3.8,-4.6 4.6,-4.6 4.6,-3.8 ; 3.8,4.6 4.6,4.6 4.6,3.8
Mechanical 13:
  circle w0.1: c-3.675,3.675 r0.5
  lines w0.1: -4.575,-4.575 4.575,-4.575 4.575,4.575 -4.575,4.575 -4.575,-4.575
Mechanical 15:
  lines w0.1: -0.5,0 0.5,0 ; 0,-0.5 0,0.5 ; -5.5,-5.5 5.5,-5.5 5.5,5.5 -5.5,5.5 -5.5,-5.5
3D body: height 1, standoff 0, extent -4.575,-4.575 4.575,4.575